# EAGLE library part MAX213CDBR (library texas)
Texas Instruments MAX213CDBR 5-V MULTICHANNEL RS-232 LINE DRIVER/RECEIVER WITH ±15-kV ESD PROTECTION SSOP28DB package
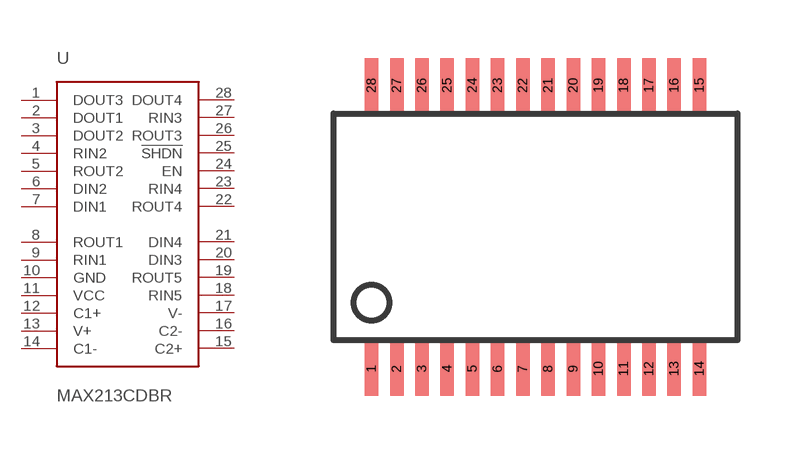
[diagram p129: symbol with the pads of SSOP28DB; footprint SSOP28DB]

Designator prefix -

## MAX213CDBR  [SSOP28DB]
1  DOUT3
2  DOUT1
3  DOUT2
4  RIN2
5  ROUT2
6  DIN2
7  DIN1
8  ROUT1
9  RIN1
10  GND
11  VCC
12  C1+
13  V+
14  C1-
15  C2+
16  C2-
17  V-
18  RIN5
19  ROUT5
20  DIN3
21  DIN4
22  ROUT4
23  RIN4
24  EN
25  !SHDN!
26  ROUT3
27  RIN3
28  DOUT4

## Footprint SSOP28DB (pad centres in mm)
Small Shrink Outline Package
smd 0.348 x 1.397: 1 -4.225,-3.656; 2 -3.575,-3.656; 3 -2.925,-3.656; 4 -2.275,-3.656; 5 -1.625,-3.656; 6 -0.975,-3.656; 7 -0.325,-3.656; 8 0.325,-3.656; 9 0.975,-3.656; 10 1.625,-3.656; 11 2.275,-3.656; 12 2.925,-3.656; 13 3.575,-3.656; 14 4.225,-3.656; 15 4.225,3.656; 16 3.575,3.656; 17 2.925,3.656; 18 2.275,3.656; 19 1.625,3.656; 20 0.975,3.656; 21 0.325,3.656; 22 -0.325,3.656; 23 -0.975,3.656; 24 -1.625,3.656; 25 -2.275,3.656; 26 -2.925,3.656; 27 -3.575,3.656; 28 -4.225,3.656